# Altium integrated library ON Semi Signal Management Data Switches.IntLib: 121 symbols (part 4 of 4)
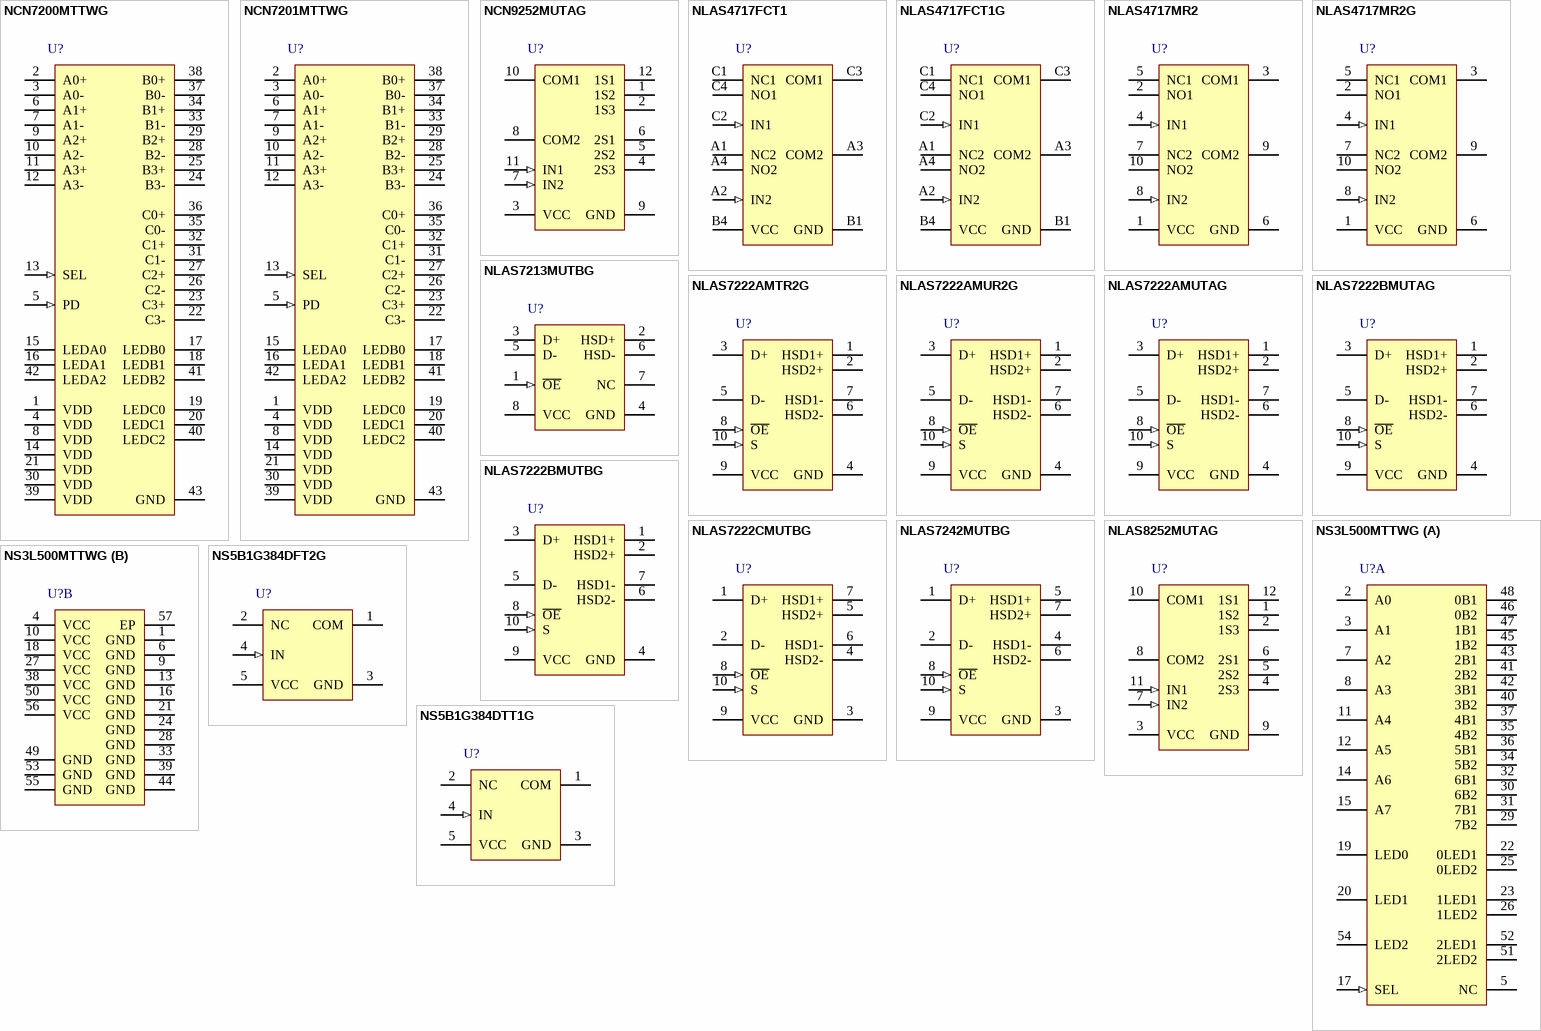
[diagram p6: symbols NCN7200MTTWG to NS5B1G384DTT1G]

## NLAS7222AMUTAG
designator U?
High-Speed USB 2.0 (480 Mbps) DPDT Switch, 3 to 3.6 V, -40 to 85 degC, 10-Pin UQFN, Pb-Free, Tape and Reel; Manufacturer: On Semiconductor; PartNumber: NLAS7222AMUTAG; Icc Max (uA): 1; VCC Max (V): 3.6; VCC Min (V): 3; DatasheetVersion: Rev. 5; PackageVersion: Rev. A, 08/2007; PackageReference: UQFN-10-488AT-01; PackageDescription: 10-Pin Quad Flat No-Lead, Body 1.4 x 1.8 mm, Pitch 0.4 mm; Supplier 1: Digi-Key; Supplier Part Number 1: NLAS7222AMUTAG-ND; Supplier 2: Mouser; Supplier Part Number 2: 863-NLAS7222AMUTAG; Packing: Tape and Reel; RoHS: TRUE; Mounting Technology: Surface Mount; ComponentLink1Description: Manufacturer URL; ComponentLink1URL: http://www.onsemi.com/; ComponentLink2Description: Datasheet; ComponentLink2URL: http://www.onsemi.com/pub_link/Collateral/NLAS7222A-D.PDF; ComponentLink3Description: Package Specification; ComponentLink3URL: http://www.onsemi.cn/pub_link/Collateral/488AT.PDF
footprint ONSC-UQFN-10-488AT-01_V (QFN, 10-Leads, Body 1.8x1.4mm, Pitch 0.4mm)
pins: 1 HSD1+ "Data Port", 2 HSD2+ "Data Port", 3 D+ "Data Port", 4 GND (power), 5 D- "Data Port", 6 HSD2- "Data Port", 7 HSD1- "Data Port", 8 ~{OE} (in) "Output Enable", 9 VCC (power), 10 S (in) "Select Input"

## NLAS7222BMUTAG
designator U?
High-Speed USB 2.0 (480 Mbps) DPDT Switch, 1.65 to 4.5 V, -40 to 85 degC, 10-Pin UQFN, Pb-Free, Tape and Reel; Manufacturer: On Semiconductor; PartNumber: NLAS7222BMUTAG; Icc Max (uA): 1; VCC Max (V): 4.5; VCC Min (V): 1.65; DatasheetVersion: Rev. 5; PackageVersion: Rev. A, 08/2007; PackageReference: UQFN-10-488AT-01; PackageDescription: 10-Pin Quad Flat No-Lead, Body 1.4 x 1.8 mm, Pitch 0.4 mm; Supplier 1: Digi-Key; Supplier Part Number 1: NLAS7222BMUTAG-ND; Supplier 2: Mouser; Supplier Part Number 2: 863-NLAS7222BMUTAG; Packing: Tape and Reel; RoHS: TRUE; Mounting Technology: Surface Mount; ComponentLink1Description: Manufacturer URL; ComponentLink1URL: http://www.onsemi.com/; ComponentLink2Description: Datasheet; ComponentLink2URL: http://www.onsemi.com/pub_link/Collateral/NLAS7222B.PDF; ComponentLink3Description: Package Specification; ComponentLink3URL: http://www.onsemi.cn/pub_link/Collateral/488AT.PDF
footprint ONSC-UQFN-10-488AT-01_V (QFN, 10-Leads, Body 1.8x1.4mm, Pitch 0.4mm)
pins: 1 HSD1+ "Data Port", 2 HSD2+ "Data Port", 3 D+ "Data Port", 4 GND (power), 5 D- "Data Port", 6 HSD2- "Data Port", 7 HSD1- "Data Port", 8 ~{OE} (in) "Output Enable", 9 VCC (power), 10 S (in) "Select Input"

## NLAS7222BMUTBG
designator U?
High-Speed USB 2.0 (480 Mbps) DPDT Switch, 1.65 to 4.5 V, -40 to 85 degC, 10-Pin UQFN, Pb-Free, Tape and Reel; Manufacturer: On Semiconductor; PartNumber: NLAS7222BMUTBG; Icc Max (uA): 1; VCC Max (V): 4.5; VCC Min (V): 1.65; DatasheetVersion: Rev. 5; PackageVersion: Rev. A, 08/2007; PackageReference: UQFN-10-488AT-01; PackageDescription: 10-Pin Quad Flat No-Lead, Body 1.4 x 1.8 mm, Pitch 0.4 mm; Supplier 1: Digi-Key; Supplier Part Number 1: NLAS7222BMUTBGOSTR-ND; Supplier 2: Digi-Key; Supplier Part Number 2: NLAS7222BMUTBGOSCT-ND; Supplier 3: Digi-Key; Supplier Part Number 3: NLAS7222BMUTBGOSDKR-ND; Supplier 4: Newark; Supplier Part Number 4: 57M9875; Supplier 5: Mouser; Supplier Part Number 5: 863-NLAS7222BMUTBG; Packing: Tape and Reel; RoHS: TRUE; Mounting Technology: Surface Mount; ComponentLink1Description: Manufacturer URL; ComponentLink1URL: http://www.onsemi.com/; ComponentLink2Description: Datasheet; ComponentLink2URL: http://www.onsemi.com/pub_link/Collateral/NLAS7222B.PDF; ComponentLink3Description: Package Specification; ComponentLink3URL: http://www.onsemi.cn/pub_link/Collateral/488AT.PDF
footprint ONSC-UQFN-10-488AT-01_V (QFN, 10-Leads, Body 1.8x1.4mm, Pitch 0.4mm)
pins: 1 HSD1+ "Data Port", 2 HSD2+ "Data Port", 3 D+ "Data Port", 4 GND (power), 5 D- "Data Port", 6 HSD2- "Data Port", 7 HSD1- "Data Port", 8 ~{OE} (in) "Output Enable", 9 VCC (power), 10 S (in) "Select Input"

## NLAS7222CMUTBG
designator U?
High-Speed USB 2.0 (480 Mbps) DPDT Switch, 1.65 to 4.5 V, -40 to 85 degC, 10-Pin UQFN, Pb-Free, Tape and Reel; Manufacturer: On Semiconductor; PartNumber: NLAS7222CMUTBG; Icc Max (uA): 1; VCC Max (V): 4.5; VCC Min (V): 1.65; DatasheetVersion: Rev. 5; PackageVersion: Rev. A, 08/2007; PackageReference: UQFN-10-488AT-01; PackageDescription: 10-Pin Quad Flat No-Lead, Body 1.4 x 1.8 mm, Pitch 0.4 mm; Supplier 1: Digi-Key; Supplier Part Number 1: NLAS7222CMUTBG-ND; Supplier 2: Mouser; Supplier Part Number 2: 863-NLAS7222CMUTBG; Packing: Tape and Reel; RoHS: TRUE; Mounting Technology: Surface Mount; ComponentLink1Description: Manufacturer URL; ComponentLink1URL: http://www.onsemi.com/; ComponentLink2Description: Datasheet; ComponentLink2URL: http://www.onsemi.com/pub_link/Collateral/NLAS7222B.PDF; ComponentLink3Description: Package Specification; ComponentLink3URL: http://www.onsemi.cn/pub_link/Collateral/488AT.PDF
footprint ONSC-UQFN-10-488AT-01_V (QFN, 10-Leads, Body 1.8x1.4mm, Pitch 0.4mm)
pins: 1 D+ "Data Port", 2 D- "Data Port", 3 GND (power), 4 HSD2- "Data Port", 5 HSD2+ "Data Port", 6 HSD1- "Data Port", 7 HSD1+ "Data Port", 8 ~{OE} (in) "Output Enable", 9 VCC (power), 10 S (in) "Select Input"

## NLAS7242MUTBG
designator U?
High-Speed USB 2.0 (480 Mbps) DPDT Switch, 1.65 to 4.5 V, -40 to 85 degC, 10-Pin UQFN, Pb-Free, Tape and Reel; Manufacturer: On Semiconductor; PartNumber: NLAS7242MUTBG; Icc Max (uA): 1; VCC Max (V): 4.5; VCC Min (V): 1.65; DatasheetVersion: Rev. 4; PackageVersion: Rev. A, 08/2007; PackageReference: UQFN-10-488AT-01; PackageDescription: 10-Pin Quad Flat No-Lead, Body 1.4 x 1.8 mm, Pitch 0.4 mm; Supplier 1: Digi-Key; Supplier Part Number 1: NLAS7242MUTBGOSTR-ND; Supplier 2: Digi-Key; Supplier Part Number 2: NLAS7242MUTBGOSCT-ND; Supplier 3: Digi-Key; Supplier Part Number 3: NLAS7242MUTBGOSDKR-ND; Supplier 4: Newark; Supplier Part Number 4: 13P5572; Supplier 5: Mouser; Supplier Part Number 5: 863-NLAS7242MUTBG; Packing: Tape and Reel; RoHS: TRUE; Mounting Technology: Surface Mount; ComponentLink1Description: Manufacturer URL; ComponentLink1URL: http://www.onsemi.com/; ComponentLink2Description: Datasheet; ComponentLink2URL: http://www.onsemi.com/pub_link/Collateral/NLAS7242-D.PDF; ComponentLink3Description: Package Specification; ComponentLink3URL: http://www.onsemi.cn/pub_link/Collateral/488AT.PDF
footprint ONSC-UQFN-10-488AT-01_V (QFN, 10-Leads, Body 1.8x1.4mm, Pitch 0.4mm)
pins: 1 D+ "Data Ports", 2 D- "Data Ports", 3 GND (power), 4 HSD1- "Data Ports", 5 HSD1+ "Data Ports", 6 HSD2- "Data Ports", 7 HSD2+ "Data Ports", 8 ~{OE} (in) "Output Enable", 9 VCC (power), 10 S (in) "Control Input"

## NLAS8252MUTAG
designator U?
DP3T Switch for USB / UART / Data Multiplexing, 1.65 to 4.5 V, -40 to 85 degC, 10-Pin UQFN, Pb-Free, Tape and Reel; Manufacturer: On Semiconductor; PartNumber: NLAS8252MUTAG; Icc Max (uA): 1; VCC Max (V): 4.5; VCC Min (V): 1.65; DatasheetVersion: Rev. 1; PackageVersion: Rev. A, 06/2007; PackageReference: UQFN-12-523AE-01; PackageDescription: 12-Pin Quad Flat No-Lead, Body 1.7 x 2 mm, Pitch 0.4 mm; Supplier 1: Digi-Key; Supplier Part Number 1: NLAS8252MUTAGOSTR-ND; Supplier 2: Digi-Key; Supplier Part Number 2: NLAS8252MUTAGOSCT-ND; Supplier 3: Digi-Key; Supplier Part Number 3: NLAS8252MUTAGOSDKR-ND; Supplier 4: Newark; Supplier Part Number 4: 01P0140; Supplier 5: Mouser; Supplier Part Number 5: 863-NLAS8252MUTAG; Packing: Tape and Reel; RoHS: TRUE; Mounting Technology: Surface Mount; ComponentLink1Description: Manufacturer URL; ComponentLink1URL: http://www.onsemi.com/; ComponentLink2Description: Datasheet; ComponentLink2URL: http://www.onsemi.com/pub_link/Collateral/NLAS8252-D.PDF; ComponentLink3Description: Package Specification; ComponentLink3URL: http://www.onsemi.com/pub_link/Collateral/523AE.PDF
footprint ONSC-UQFN-12-523AE-01_V (QFN, 12-Leads, Body 2x1.7mm, Pitch 0.4mm)
pins: 1 1S2 "Switch #1 Position 2 Signal Line", 2 1S3 "Switch #1 Position 3 Signal Line", 3 VCC (power) "Power Supply", 4 2S3 "Switch #2 Position 3 Signal Line", 5 2S2 "Switch #2 Position 2 Signal Line", 6 2S1 "Switch #2 Position 1 Signal Line", 7 IN2 (in) "Bit 1 Control Input Select Line", 8 COM2 "Switch #2 Common Signal Line", 9 GND (power) "Ground", 10 COM1 "Switch #1 Common Signal Line", 11 IN1 (in) "Bit 0 Control Input Select Line", 12 1S1 "Switch #1 Position 1 Signal Line"

## NS3L500MTTWG
designator U?
8-Channel, 2:1 Gigabit Ethernet LAN Switch with LED Switch, 3 to 3.6 V, -40 to 85 degC, 56-Pin WQFN, Pb-Free, Tape and Reel; Manufacturer: On Semiconductor; PartNumber: NS3L500MTTWG; Icc Max (uA): 600; VCC Max (V): 3.6; VCC Min (V): 3; DatasheetVersion: Rev. 0; PackageVersion: Rev. A, 03/2010; PackageReference: WQFN-56-510AK-01; PackageDescription: 56-Pin Quad Flat No-Lead, Body 5 x 11 mm, Pitch 0.5 mm; Supplier 1: Digi-Key; Supplier Part Number 1: NS3L500MTTWGOSTR-ND; Supplier 2: Digi-Key; Supplier Part Number 2: NS3L500MTTWGOSCT-ND; Supplier 3: Digi-Key; Supplier Part Number 3: NS3L500MTTWGOSDKR-ND; Supplier 4: Mouser; Supplier Part Number 4: 863-NS3L500MTTWG; Packing: Tape and Reel; RoHS: TRUE; Mounting Technology: Surface Mount; ComponentLink1Description: Manufacturer URL; ComponentLink1URL: http://www.onsemi.com/; ComponentLink2Description: Datasheet; ComponentLink2URL: http://www.onsemi.com/pub_link/Collateral/NS3L500-D.PDF; ComponentLink3Description: Package Specification; ComponentLink3URL: http://www.onsemi.com/pub_link/Collateral/510AK.PDF
footprint ONSC-WQFN-56-510AK-01_V (QFN, 56-Leads, Body 11x5mm, Pitch 0.5mm, Thermal Pad 2.5x8.5mm)
part A pins: 2 A0 "Data I/Os", 3 A1 "Data I/Os", 5 NC, 7 A2 "Data I/Os", 8 A3 "Data I/Os", 11 A4 "Data I/Os", 12 A5 "Data I/Os", 14 A6 "Data I/Os", 15 A7 "Data I/Os", 17 SEL (in) "Select Input", 19 LED0 "LED I/Os", 20 LED1 "LED I/Os", 22 0LED1 "LED I/Os", 23 1LED1 "LED I/Os", 25 0LED2 "LED I/Os", 26 1LED2 "LED I/Os", 29 7B2 "Data I/Os", 30 6B2 "Data I/Os", 31 7B1 "Data I/Os", 32 6B1 "Data I/Os", 34 5B2 "Data I/Os", 35 4B2 "Data I/Os", 36 5B1 "Data I/Os", 37 4B1 "Data I/Os", 40 3B2 "Data I/Os", 41 2B2 "Data I/Os", 42 3B1 "Data I/Os", 43 2B1 "Data I/Os", 45 1B2 "Data I/Os", 46 0B2 "Data I/Os", 47 1B1 "Data I/Os", 48 0B1 "Data I/Os", 51 2LED2 "LED I/Os", 52 2LED1 "LED I/Os", 54 LED2 "LED I/Os"
part B pins: 1 GND (power), 4 VCC (power), 6 GND (power), 9 GND (power), 10 VCC (power), 13 GND (power), 16 GND (power), 18 VCC (power), 21 GND (power), 24 GND (power), 27 VCC (power), 28 GND (power), 33 GND (power), 38 VCC (power), 39 GND (power), 44 GND (power), 49 GND (power), 50 VCC (power), 53 GND (power), 55 GND (power), 56 VCC (power), 57 EP (power)

## NS5B1G384DFT2G
designator U?
Single (NC) Normally Closed SPST Analog Switch, 2 to 5.5 V, -40 to 85 degC, 5-Pin SC70, Pb-Free, Tape and Reel; Manufacturer: On Semiconductor; PartNumber: NS5B1G384DFT2G; Icc Max (uA): 1; VCC Max (V): 5.5; VCC Min (V): 2; DatasheetVersion: Rev. 1; PackageVersion: Rev. K, 07/2010; PackageReference: SC70-5-419A-02_K; PackageDescription: 5-Pin Small Outline Transistor, Body 2 x 1.25 mm, Pitch 0.65 mm; Supplier 1: Digi-Key; Supplier Part Number 1: NS5B1G384DFT2G-ND; Supplier 2: Mouser; Supplier Part Number 2: 863-NS5B1G384DFT2G; Packing: Tape and Reel; RoHS: TRUE; Mounting Technology: Surface Mount; ComponentLink1Description: Manufacturer URL; ComponentLink1URL: http://www.onsemi.com/; ComponentLink2Description: Datasheet; ComponentLink2URL: http://www.onsemi.com/pub_link/Collateral/NS5B1G384-D.PDF; ComponentLink3Description: Package Specification; ComponentLink3URL: http://www.onsemi.cn/pub_link/Collateral/LMV821-D.PDF
footprint ONSC-SC70-5-419A-02_K_N (SOT23, 5-Leads, Body 2.2x1.35mm, Pitch 0.65mm, IPC Medium Density)
footprint ONSC-SC70-5-419A-02_K_L (SOT23, 5-Leads, Body 2.2x1.35mm, Pitch 0.65mm, IPC High Density)
footprint ONSC-SC70-5-419A-02_K_M (SOT23, 5-Leads, Body 2.2x1.35mm, Pitch 0.65mm, IPC Low Density)
pins: 1 COM "Common Signal Line", 2 NC "Normally Closed Signal Line", 3 GND (power) "Ground", 4 IN (in) "Control Signal Line", 5 VCC (power) "Voltage Supply"

## NS5B1G384DTT1G
designator U?
Single (NC) Normally Closed SPST Analog Switch, 2 to 5.5 V, -40 to 85 degC, 5-Pin TSOP, Pb-Free, Tape and Reel; Manufacturer: On Semiconductor; PartNumber: NS5B1G384DTT1G; Icc Max (uA): 1; VCC Max (V): 5.5; VCC Min (V): 2; DatasheetVersion: Rev. 1; PackageVersion: Rev. K, 04/2013; PackageReference: TSOP-5-483-02; PackageDescription: 5-Pin Small Outline Package, Body 3 x 1.5 mm, Pitch 0.95 mm; Supplier 1: Digi-Key; Supplier Part Number 1: NS5B1G384DTT1G-ND; Supplier 2: Mouser; Supplier Part Number 2: 863-NS5B1G384DTT1G; Packing: Tape and Reel; RoHS: TRUE; Mounting Technology: Surface Mount; ComponentLink1Description: Manufacturer URL; ComponentLink1URL: http://www.onsemi.com/; ComponentLink2Description: Datasheet; ComponentLink2URL: http://www.onsemi.com/pub_link/Collateral/NS5B1G384-D.PDF; ComponentLink3Description: Package Specification; ComponentLink3URL: http://www.onsemi.com/pub_link/Collateral/483.PDF
footprint ONSC-TSOP-5-483-02_V (SOP, 5-Leads, Body 3x1.5mm, Pitch 0.95mm)
pins: 1 COM "Common Signal Line", 2 NC "Normally Closed Signal Line", 3 GND (power) "Ground", 4 IN (in) "Control Signal Line", 5 VCC (power) "Voltage Supply"